# Altium schematic symbol library Modules.SchLib: 3 symbols
Pins are listed as number, name and electrical type; pins without a type are passive.

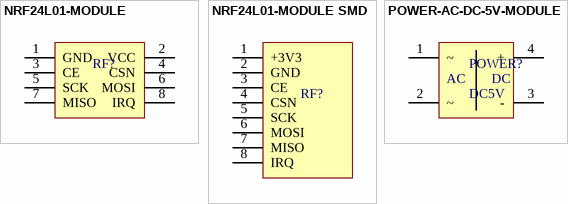
[diagram p0: symbols NRF24L01-MODULE to POWER-AC-DC-5V-MODULE]

## NRF24L01-MODULE
designator RF?, comment NRF24L01  (value not drawn)
footprint NRF24L01-MODULE-DIP
footprint NRF24L01-MODULE-DIP-WITH-HDR (Footprint not found)
pins: 1 GND, 2 VCC, 3 CE, 4 CSN, 5 SCK, 6 MOSI, 7 MISO, 8 IRQ

## NRF24L01-MODULE SMD
designator RF?, comment NRF24L01  (value not drawn)
footprint NRF24L01-MODULE-SMD
pins: 1 +3V3, 2 GND, 3 CE, 4 CSN, 5 SCK, 6 MOSI, 7 MISO, 8 IRQ

## POWER-AC-DC-5V-MODULE
designator POWER?, comment DC5V
footprint POWER-DC-5V-MINI-MODULE
pins: 1 ~, 2 ~, 3 -, 4 +
text: AC; DC